# Altium integrated library Libreria-Varios.IntLib: 6 symbols
Pins are listed as number, name and electrical type; pins without a type are passive.

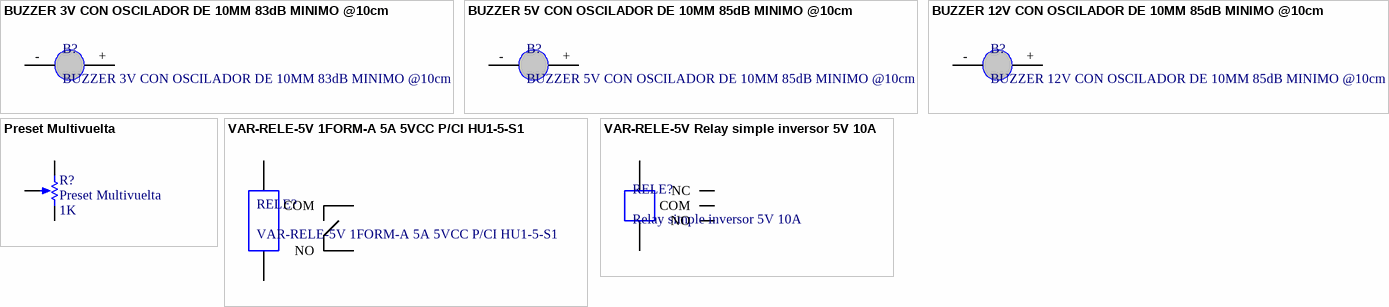
[diagram p0: symbols BUZZER 3V CON OSCILADOR DE 10MM 83dB MINIMO @10cm to VAR-RELE-5V Relay simple inversor 5V 10A]

## BUZZER 3V CON OSCILADOR DE 10MM 83dB MINIMO @10cm
designator B?
COD. ELEMON: OS9209000
footprint VAR BUZZER 10 (BUZZER CON OSCILADOR DE 10MM)
pins: +, -

## BUZZER 5V CON OSCILADOR DE 10MM 85dB MINIMO @10cm
designator B?
COD. ELEMON: OS9209100
footprint VAR BUZZER 10 (BUZZER CON OSCILADOR DE 10MM)
pins: +, -

## BUZZER 12V CON OSCILADOR DE 10MM 85dB MINIMO @10cm
designator B?
COD. ELEMON: OS9209200
footprint VAR BUZZER 10 (BUZZER CON OSCILADOR DE 10MM)
pins: +, -

## Preset Multivuelta
designator R?  value 1K
Sim Note: Enter the Resistance value and the set point into parameter fields.; Set Position: 0.5; PackageDescription: Variable Resistor, Thru-Hole; 3 Leads
simulation model POT (Potentiometer)
footprint Var_Preset
pins: 1 TOP, 2 TAP, 3 BOT
1 alternate drawing of the same symbol

## VAR-RELE-5V 1FORM-A 5A 5VCC P/CI HU1-5-S1
designator RELE?
COD. ELEMON: RE4551340
footprint VAR-RELE-5V HU1-5-S1 (VAR-RELE-5V 1FORM-A 5A 5VCC P/CI HU1-5-S1)
pins: 1, 2, 3 COM, 4 NO

## VAR-RELE-5V Relay simple inversor 5V 10A
designator RELE?, comment Relay simple inversor 5V 10A
COD. SYC: NT73-05
footprint VAR-RELE-5V10A (Relay 5V 10A)
pins: 1, 2, 3 COM, 4 NO, 5 NC